# Altium footprint library crystals.PcbLib: 2 footprints
Each footprint in its own frame and in the unit in brackets; x right, y up, seen from the top. Pads: shape width x height; smd on the part's side, far side on the other; paste and mask are expansions set on the pad; w line width, h text height; cw(c..) or ccw(c..) is an arc to the next point about the centre after c.
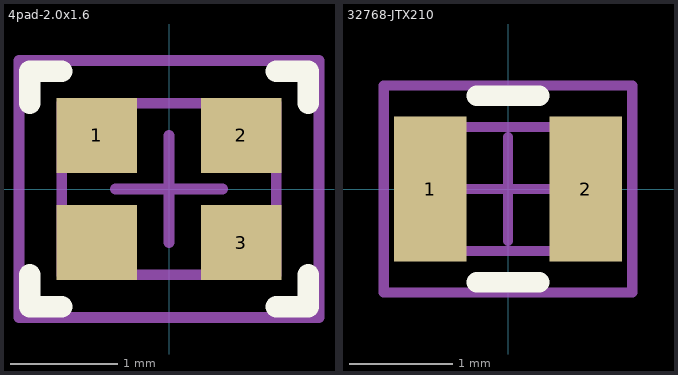
[diagram p0: the footprints below, top view; thin cyan lines are the x and y axes]

## 4pad-2.0x1.6 [mm] "4-SMD, No Lead"
height 0.65
pads (4):
  rect 0.75x0.7 smd: 1(-0.675,0.5) 2(0.675,0.5) 3(0.675,-0.5) ""(-0.675,-0.5)
Top Overlay:
  lines w0.2: -1.3,-0.8 -1.3,-1.1 -1,-1.1 ; -1.3,0.8 -1.3,1.1 -1,1.1 ; 1,-1.1 1.3,-1.1 1.3,-0.8 ; 1,1.1 1.3,1.1 1.3,0.8
Top Assembly:
  lines w0.1: -1,-0.8 1,-0.8 1,0.8 -1,0.8 -1,-0.8
Top Component Center:
  lines w0.1: -0.5,0 0.5,0 ; 0,-0.5 0,0.5
Top Component Outline:
  lines w0.1: -1,-0.8 1,-0.8 1,0.8 -1,0.8 -1,-0.8
Top Courtyard:
  lines w0.1: -1.4,-1.2 -1.4,1.2 1.4,1.2 1.4,-1.2 -1.4,-1.2
Top Designator:
  text "''.Designator''" at 0,0 h2.5
Top Value:
  text "''.Comment''" at 0,0 h2.5
3D body "XRCGB32M000F2P01R0.STEP": height 0.7, standoff 0, extent -1,-0.8 1,0.8

## 32768-JTX210 [mm] "2-SMD-32768"
height 0.6
pads (2):
  rect 0.7x1.4 smd: 1(-0.75,0) 2(0.75,0)
Top Overlay:
  lines w0.2: -0.3,-0.9 0.3,-0.9 ; -0.3,0.9 0.3,0.9
Top Assembly:
  lines w0.1: -1,-0.6 -1,0.6 1,0.6 1,-0.6 -1,-0.6
Top Component Center:
  lines w0.1: -0.5,0 0.5,0 ; 0,-0.5 0,0.5
Top Component Outline:
  lines w0.1: -1,-0.6 -1,0.6 1,0.6 1,-0.6 -1,-0.6
Top Courtyard:
  lines w0.1: -1.2,-1 -1.2,1 1.2,1 1.2,-1 -1.2,-1
Top Designator:
  text "''.Designator''" at 0,0 h2.5
Top Value:
  text "''.Comment''" at 0,0 h2.5
3D body "32768-JTX210.STEP": height 0.6, standoff 0, extent -1,-0.6 1,0.6